# EAGLE library part HONEYWELL-MPR (library apollo-ctrl)
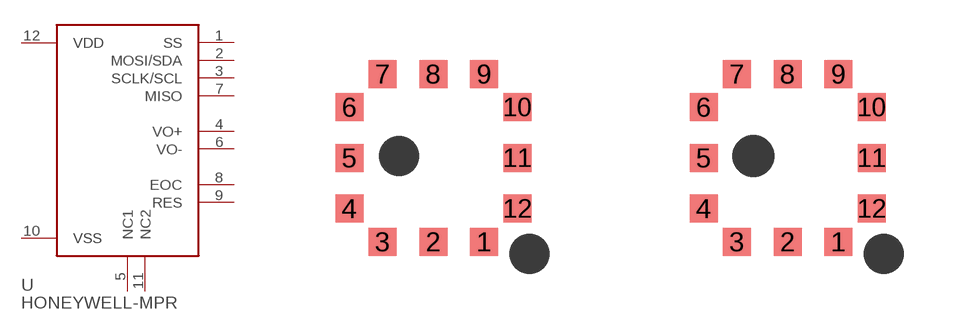
[diagram p2: symbol with the pads of HONEYWELL-MPR; footprints HONEYWELL-MPR, HONEYWELL-MPR-GAGE]

Designator prefix U

## HONEYWELL-MPR-SMD-ABS  [HONEYWELL-MPR]
1  SS
2  MOSI/SDA
3  SCLK/SCL
4  VO+
5  NC1  nc
6  VO-
7  MISO
8  EOC
9  RES
10  VSS  in
11  NC2  nc
12  VDD  in

## HONEYWELL-MPR-SMD-GAGE  [HONEYWELL-MPR-GAGE]
Pads as for HONEYWELL-MPR

## HONEYWELL-MPR-GAGE-DIY  [HONEYWELL-MPR-GAGE-DIY]
Pads as for HONEYWELL-MPR

## Footprint HONEYWELL-MPR (pad centres in mm)
smd 0.7 x 0.7: 1 1.27,-2.1; 2 0,-2.1; 3 -1.27,-2.1; 4 -2.1,-1.27; 5 -2.1,0; 6 -2.1,1.27; 7 -1.27,2.1; 8 0,2.1; 9 1.27,2.1; 10 2.1,1.27; 11 2.1,0; 12 2.1,-1.27

## Footprint HONEYWELL-MPR-GAGE (pad centres in mm)
smd 0.7 x 0.7: 1 1.27,-2.1; 2 0,-2.1; 3 -1.27,-2.1; 4 -2.1,-1.27; 5 -2.1,0; 6 -2.1,1.27; 7 -1.27,2.1; 8 0,2.1; 9 1.27,2.1; 10 2.1,1.27; 11 2.1,0; 12 2.1,-1.27
hole 1 at -0.86,0.05

## Footprint HONEYWELL-MPR-GAGE-DIY (pad centres in mm)
smd 0.7 x 1.1: 1 1.27,-2.3; 2 0,-2.3; 3 -1.27,-2.3; 7 -1.27,2.3; 8 0,2.3; 9 1.27,2.3
smd 1.1 x 0.7: 4 -2.3,-1.27; 5 -2.3,0; 6 -2.3,1.27; 10 2.3,1.27; 11 2.3,0; 12 2.3,-1.27
hole 1 at -0.86,0.05